# Altium footprint library CAP_FILM_4.5X7.2.PcbLib: 1 footprints
Each footprint in its own frame and in the unit in brackets; x right, y up, seen from the top. Pads: shape width x height; smd on the part's side, far side on the other; paste and mask are expansions set on the pad; w line width, h text height; cw(c..) or ccw(c..) is an arc to the next point about the centre after c.
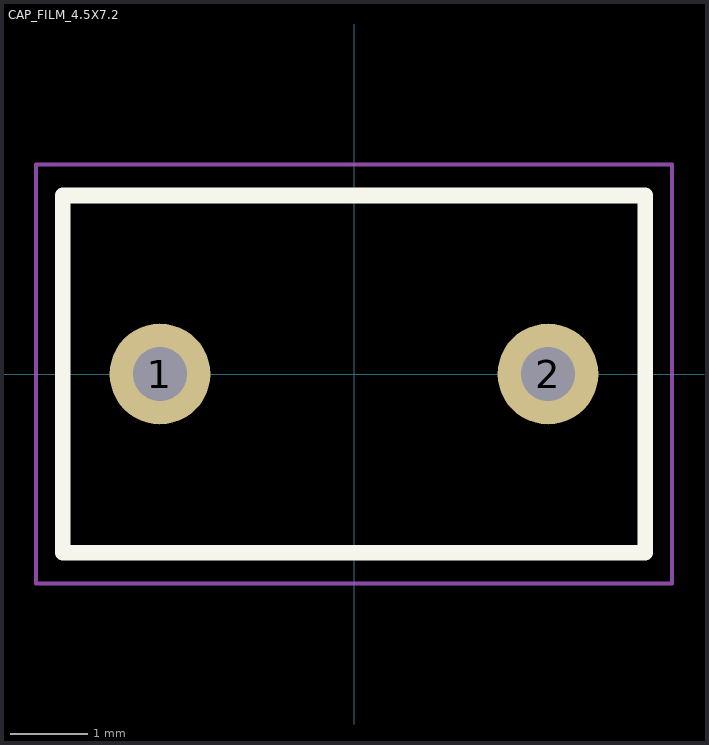
[diagram p0: the footprint, top view; thin cyan lines are the x and y axes]

## CAP_FILM_4.5X7.2 [mm]
height 9.5
pads (2):
  round 1.3 hole 0.7: 1(-2.5,0) 2(2.5,0)
Top Overlay:
  lines w0.2: -3.75,-2.305 3.75,-2.305 3.75,2.3 -3.75,2.3 -3.75,-2.305
Top Assembly:
  lines w0.1: -3.75,-2.305 3.75,-2.305 3.75,2.3 -3.75,2.3 -3.75,-2.305
Top Courtyard:
  lines w0.05: -4.1,-2.7 -4.1,2.7 4.1,2.7 4.1,-2.7 -4.1,-2.7
Top Designator:
  text ".Designator" at -4.998,-0.333 h1
3D body "R82DC3680AA60J.step": height 9.6, standoff -5.5, extent -3.75,-2.305 3.75,2.3